# Altium integrated library 0603YC104KAZ2A.IntLib: 1 symbol
Pins are listed as number, name and electrical type; pins without a type are passive.

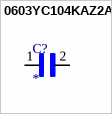
[diagram p0: symbol 0603YC104KAZ2A]

## 0603YC104KAZ2A
designator C?
CERAMIC CAPACITOR, 0.1UF, 16V, X7R, 10%, 0603, FULL REEL; MP: 0603YC104KAZ2A; Package: None; Price: None; Value: *; Availability: Unavailable
footprint CAPC1608X90N
pins: 1, 2